# EAGLE library part MCP601 (library eko-parts)
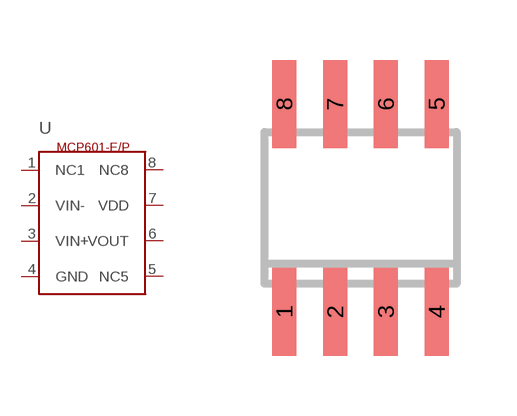
[diagram p5: symbol with the pads of SO8; footprint SO8]

Designator prefix U

## MCP601  [SO8]
1  NC1  nc
2  VIN-
3  VIN+
4  GND  pwr
5  NC5  nc
6  VOUT
7  VDD  pwr
8  NC8  nc

## Footprint SO8 (pad centres in mm)
smd 0.6 x 2.2: 1 -1.905,-2.6; 2 -0.635,-2.6; 3 0.635,-2.6; 4 1.905,-2.6; 5 1.905,2.6; 6 0.635,2.6; 7 -0.635,2.6; 8 -1.905,2.6